# EAGLE library part 009276004021006 (library PI3523_1_7_ul_009276004021006)
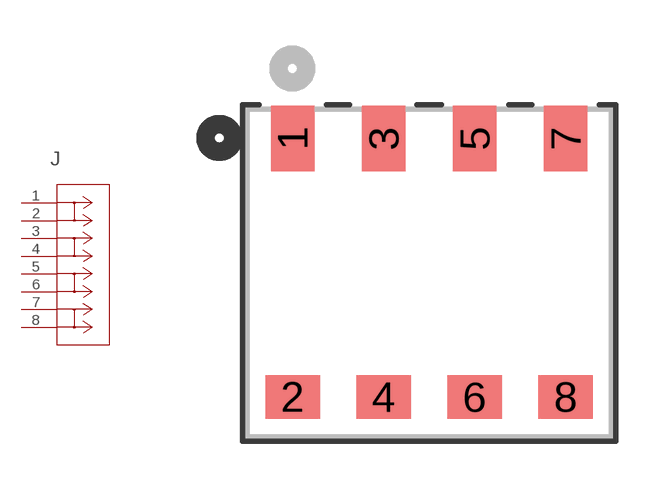
[diagram p0: symbol with the pads of CONN_009276004021006_AVX; footprint CONN_009276004021006_AVX]

Designator prefix J

## 009276004021006 (BUILT_BY: EMA_Cory; COPYRIGHT: Copyright (C) 2018 Accelerated Designs. All rights reserved; DATASHEET: https://4donline.ihs.com/images/VipMasterIC/IC/AVXC/AVXCS09387/AVXCS09387-1.pdf?hkey=52A5661711E402568146F3353EA87419; MANUFACTURER_PART_NUMBER: 009276004021006; SOURCELIBRARY: Add_to_database_2020-12-29; VENDOR: AVX Corporation)  [CONN_009276004021006_AVX]
1  1  pas
2  2  pas
3  3  pas
4  4  pas
5  5  pas
6  6  pas
7  7  pas
8  8  pas

## Footprint CONN_009276004021006_AVX (pad centres in mm)
smd 1.194 x 1.803: 1 -3.75,3.696; 3 -1.25,3.696; 5 1.25,3.696; 7 3.75,3.696
smd 1.499 x 1.194: 2 -3.75,-3.404; 4 -1.25,-3.404; 6 1.25,-3.404; 8 3.75,-3.404